# Altium schematic symbol library SCH - POWER - LINEAR VREG - TI LP3891EMR-1.2.SchLib: 1 symbol
Pins are listed as number, name and electrical type; pins without a type are passive.

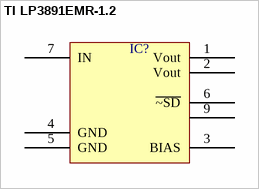
[diagram p0: symbol TI LP3891EMR-1.2]

## TI LP3891EMR-1.2
designator IC?  (value not drawn)
pins: 1 Vout, 2 Vout, 3 BIAS, 4 GND, 5 GND, 6 ~{~SD}, 7 IN, 9